# Altium footprint library Miscellaneous.PcbLib: 71 footprints (part 1 of 5)
Each footprint in its own frame and in the unit in brackets; x right, y up, seen from the top. Pads: shape width x height; smd on the part's side, far side on the other; paste and mask are expansions set on the pad; w line width, h text height; cw(c..) or ccw(c..) is an arc to the next point about the centre after c.
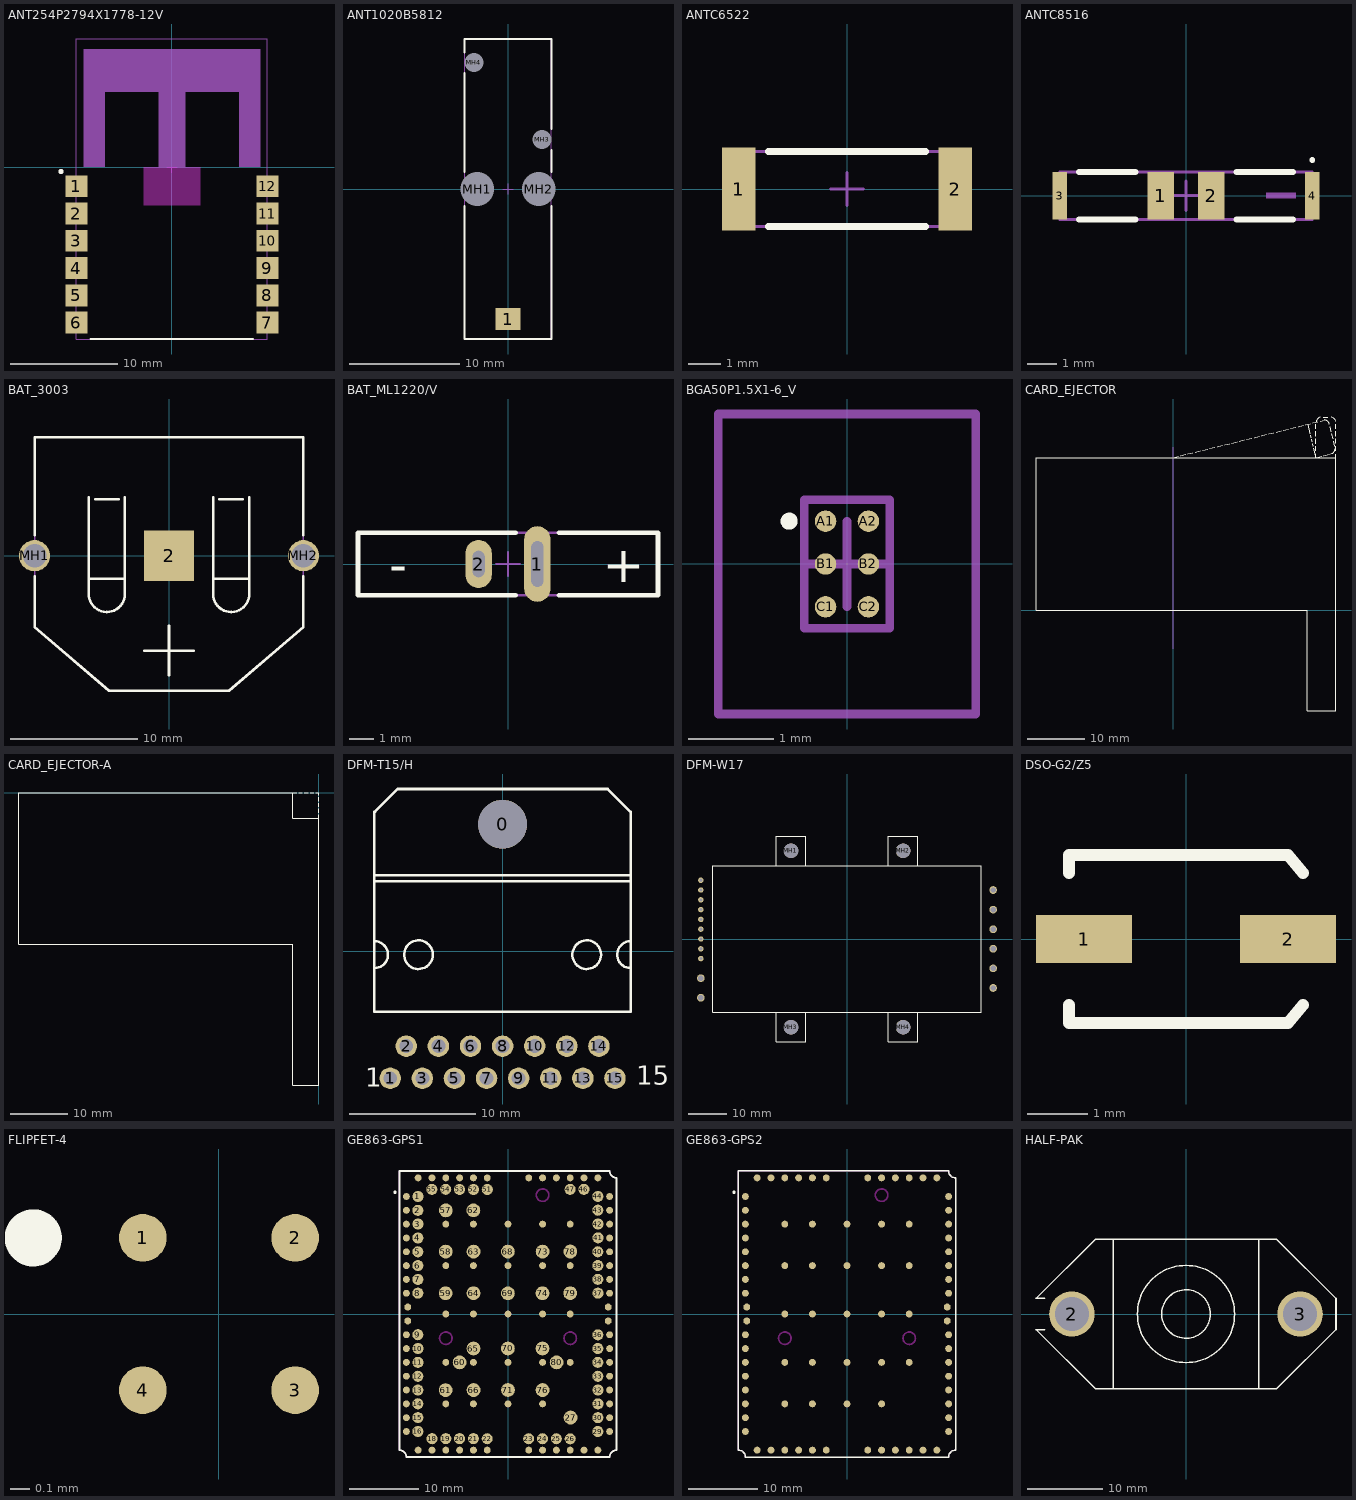
[diagram p0: the footprints below, top view; thin cyan lines are the x and y axes]

## ANT254P2794X1778-12V [mil] "SM Module; 12 Leads; Body 27.9x17.8x1.7mm (LxWxH), Microchip Recommended"
height 66.93
pads (12):
  rect 80x80 smd paste-159.45 mask+2: 1(-350,-70) 2(-350,-170) 3(-350,-270) 4(-350,-370) 5(-350,-470) 6(-350,-570) 7(350,-570) 8(350,-470) 9(350,-370) 10(350,-270) 11(350,-170) 12(350,-70)
Top Layer keep-out:
  rectangle: -105,-140 105,0
Top Overlay:
  circle w9.84: c-406.5,-15.75 r4.92
  lines w7.87: -297.64,-630 297.64,-630
Mechanical 13:
  rectangle: -49.21,0 49.21,275.59
  region: 324.8,275.59 246.06,275.59 246.06,0 324.8,0
  rectangle: -324.8,0 -246.06,275.59
  rectangle: -324.8,275.59 324.8,433.07
  lines w3.94: 350,-630 350,470 ; 350.39,-630 -350,-630 -350,470 350.39,470
Mechanical 15:
  lines w3.94: -19.69,0 19.68,0 ; 0,-19.68 0,19.69
3D body: height 66.93, standoff 0, extent -349.98,-629.98 349.98,469.98

## ANT1020B5812 [mm] "Snap-In Antenna, Body 27.3x7.9mm (LxW)"
height 3.95
pads (5):
  rect 2.25x2 smd: 1(0,-11.85)
  round 2.75 hole 3.05: MH1(-2.8,0) MH2(2.8,0)
  round 1.45 hole 1.75: MH3(3.1,4.5) MH4(-3.1,11.5)
Top Overlay:
  lines w0.2: -3.95,-1.55 -3.95,-13.65 3.95,-13.65 3.95,-1.55 ; -3.95,1.55 -3.95,10.55 ; -3.95,12.45 -3.95,13.65 3.95,13.65 3.95,5.45 ; 3.95,1.55 3.95,3.55
Mechanical 13:
  lines w0.1: -3.95,-13.65 3.95,-13.65 3.95,13.65 -3.95,13.65 -3.95,-13.65
Mechanical 15:
  lines w0.1: -0.5,0 0.5,0 ; 0,-0.5 0,0.5
3D body: height 3.95, standoff 0, extent -3.949,-13.649 3.949,13.649

## ANTC6522 [mil] "Chip Antenna; 2 Leads, Body 6.5x2.2mm (LxW)"
height 40
pads (2):
  rect 40x100 smd: 1(-130,0) 2(130,0)
Top Overlay:
  lines w7.87: -94.25,-45 94.25,-45 ; -94.25,45 94.25,45
Mechanical 13:
  lines w3.94: -130,-45 -130,45 130,45 130,-45 -130,-45
Mechanical 15:
  lines w3.94: -19.69,0 19.68,0 ; 0,-19.68 0,19.69
3D body: height 40, standoff 0, extent -129.98,-44.98 129.98,44.98

## ANTC8516 [mm] "Chip Antenna; 4 Leads, Body 8.5x1.6mm (LxW)"
height 1.4
pads (4):
  rect 0.9x1.6 smd: 1(-0.85,0) 2(0.85,0)
  rect 0.5x1.6 smd: 3(-4.25,0) 4(4.25,0)
Top Overlay:
  circle w0.1: c4.25,1.2 r0.05
  lines w0.2: -3.6,-0.8 -1.7,-0.8 ; -3.6,0.8 -1.7,0.8 ; 1.7,-0.8 3.6,-0.8 ; 1.7,0.8 3.6,0.8
Mechanical 13:
  rectangle: 2.7,-0.1 3.7,0.1
  lines w0.1: -4.25,-0.8 -4.25,0.8 4.25,0.8 4.25,-0.8 -4.25,-0.8
Mechanical 15:
  lines w0.1: -0.5,0 0.5,0 ; 0,-0.5 0,0.5
3D body: height 1.4, standoff 0, extent -4.249,-0.799 4.249,0.799

## BAT_3003 [mm] "Battery Retainer for 20mm Dia. cell, Thru-Hole; Body 21.1 x 19.9 mm"
height 3.7
pads (3):
  rect 3.96x3.96 smd: 2(0,0)
  round 2.45 hole 1.85: MH1(-10.55,0) MH2(10.55,0)
Top Overlay:
  lines w0.2: -10.55,-1.625 -10.55,-5.6 -4.7,-10.6 4.7,-10.6 10.55,-5.6 10.55,-1.625 ; -10.55,1.625 -10.55,9.3 10.55,9.3 10.55,1.625 ; -6.3,-3 -6.3,4.6 ; -6.3,-1.8 -3.46,-1.8 ; -6.299,-2.954 ccw(c-4.88,-3) -3.46,-3 -3.46,4.6 ; -5.8,4.45 -3.96,4.45 ; -1.95,-7.45 1.95,-7.45 ; 0,-9.4 0,-5.5 ; 3.46,-1.8 6.3,-1.8 ; 3.46,4.6 3.46,-3 ccw(c4.88,-3) 6.299,-2.954 ; 3.96,4.45 5.8,4.45 ; 6.3,-3 6.3,4.6
Mechanical 13:
  lines w0.1: -10.55,-5.6 -4.7,-10.6 4.7,-10.6 10.55,-5.6 10.55,9.3 -10.55,9.3 -10.55,-5.6
3D body: height 3.7, standoff 0, extent -10.551,-10.601 10.551,9.301

## BAT_ML1220/V [mm] "Battery, Thru-Hole, Vertical Disk; 2 Leads, Body 12.5 x 2.6 mm (Dia.xW typ)"
height 14.8
pads (2):
  oval 1.1x3.15 hole 0.5 slot 1.9 at 90 deg: 1(1.225,0)
  oval 1.1x2 hole 0.5 slot 1.1 at 90 deg: 2(-1.225,0)
Top Overlay:
  lines w0.2: 0.32,-1.3 -6.25,-1.3 -6.25,1.3 0.32,1.3 ; 2.13,-1.3 6.25,-1.3 6.25,1.3 2.13,1.3
  text "+" at 3.94,-0.76 h1.52
  text "-" at -4.955,-0.76 h1.52
Mechanical 13:
  lines w0.1: -6.25,-1.3 6.25,-1.3 6.25,1.3 -6.25,1.3 -6.25,-1.3
Mechanical 15:
  lines w0.1: -0.5,0 0.5,0 ; 0,-0.5 0,0.5
3D body: height 14.8, standoff 1, extent -6.249,-1.299 6.249,1.299

## BGA50P1.5X1-6_V [mm] "BGA, 6-Leads, Body 1.5x1mm, Pitch 0.5mm, FSC Recommended"
height 0.65
pads (6):
  round 0.25 smd: A1(-0.25,0.5) A2(0.25,0.5) B1(-0.25,0) B2(0.25,0) C1(-0.25,-0.5) C2(0.25,-0.5)
Top Overlay:
  circle w0.1: c-0.675,0.5 r0.05
Mechanical 13:
  lines w0.1: -0.5,-0.75 -0.5,0.75 0.5,0.75 0.5,-0.75 -0.5,-0.75
Mechanical 15:
  lines w0.1: -0.5,0 0.5,0 ; 0,-0.5 0,0.5 ; -1.5,-1.75 -1.5,1.75 1.5,1.75 1.5,-1.75 -1.5,-1.75
3D body: height 0.65, standoff 0.22, extent -0.5,-0.75 0.5,0.75

## CARD_EJECTOR [mm] "Ejector for CompactFlash Card Header, Type I; Right Button"
height 7.2
Top Overlay:
  lines w0.2: 0,26.5 0.875,26.717 ; 1.28,26.81 2.156,27.028 ; 2.56,27.13 3.435,27.347 ; 3.84,27.45 4.715,27.667 ; 5.115,27.763 5.99,27.98 ; 6.386,28.081 7.26,28.298 ; 7.666,28.398 8.541,28.615 ; 8.944,28.705 9.818,28.922 ; 10.224,29.015 11.099,29.234 ; 11.501,29.348 12.376,29.564 ; 12.78,29.663 13.655,29.879 ; 14.061,29.98 14.936,30.197 ; 15.339,30.306 16.203,30.512 ; 16.608,30.612 17.483,30.828 ; 17.881,30.927 18.756,31.144 ; 19.159,31.251 20.024,31.457 ; 20.43,31.557 21.305,31.772 ; 21.708,31.872 22.583,32.089 ; 22.983,32.197 23.848,32.403 ; 23.362,32.289 23.752,30.652 ; 23.822,30.378 23.922,29.944 ; 23.991,29.66 24.091,29.226 ; 24.175,28.896 24.275,28.462 ; 24.252,32.503 25.127,32.719 ; 24.359,28.137 24.749,26.5 ; 24.764,26.5 25.799,26.759 ; 24.775,26.5 24.775,27.1 ; 24.779,27.641 24.779,28.441 ; 24.779,28.937 24.779,29.737 ; 24.779,30.233 24.779,31.033 ; 24.779,31.465 24.779,32.265 ; 24.859,32.75 cw(c25.729,32.635) 25.582,33.5 ; 25.531,32.819 26.268,33.018 ; 26.094,26.829 27.129,27.088 ; 26.093,33.5 26.893,33.5 ; 26.291,33.026 cw(c26.262,32.149) 27.127,32.296 ; 27.212,31.878 27.412,31.02 ; 27.406,27.171 ccw(c27.26,28.035) 28.136,28.006 ; 27.444,33.494 cw(c27.415,32.618) 28.28,32.764 ; 27.503,30.652 27.703,29.794 ; 27.511,30.652 27.711,29.794 ; 27.825,29.35 28.025,28.492 ; 28.28,27.1 28.28,26.5 ; 28.28,27.644 28.28,28.444 ; 28.28,28.94 28.28,29.74 ; 28.28,30.236 28.28,31.036 ; 28.28,31.468 28.28,32.268 ; 28.28,26.5 28.28,0 28.28,-17.5 23.34,-17.5 23.34,0 -23.82,0 -23.82,26.5 28.28,26.5
Mechanical 1:
  lines w0.1: 0,-6.75 0,28.25 0,26.55

## CARD_EJECTOR-A [mm] "Ejector for CompactFlash Card Header, Type II; Right Button"
height 7.12
Top Overlay:
  lines w0.2: -3.9,0 -4.56,0 ; -3.56,0 -2.9,0 ; -2.56,0 -1.9,0 ; -1.56,0 -0.9,0 ; -0.56,0 0,0 0,-0.45 ; 0,-3.79 0,-4.45 ; 0,-3.45 0,-2.79 ; 0,-2.45 0,-1.79 ; 0,-1.45 0,-0.79 ; -4.56,0 -52.2,0 -52.2,-26.4 -4.56,-26.4 -4.56,-50.9 0,-50.9 0,-4.45 ; -4.56,0 -4.56,-4.45 0,-4.45

## DFM-T15/H [mm] "TO, Thru-Hole, Horizontal, Heatsink Mounted; 15 Bent Staggered Leads; Pitch 1.27 mm"
height 4.62
pads (16):
  round 3.86 hole 3.86: 0(0,10.045)
  round 1.7 hole 1.1: 1(-8.89,-10.045) 2(-7.62,-7.505) 3(-6.35,-10.045) 4(-5.08,-7.505) 5(-3.81,-10.045) 6(-2.54,-7.505) 7(-1.27,-10.045) 8(0,-7.505) 9(1.27,-10.045) 10(2.54,-7.505) 11(3.81,-10.045) 12(5.08,-7.505) 13(6.35,-10.045) 14(7.62,-7.505) 15(8.89,-10.045)
Top Overlay:
  circle w0.2: c6.656,-0.271 r1.136
  circle w0.2: c-6.656,-0.271 r1.136
  lines w0.2: -10.135,-1.336 ccw(c-10.135,-0.271) -10.135,0.795 ; -10.135,5.555 10.135,5.555 ; -10.135,6.025 10.135,6.025 ; -10.135,11.05 -10.135,11.045 -10.135,-4.794 10.135,-4.795 10.135,11.045 ; -10.09,11.045 -8.3,12.836 8.3,12.836 10.09,11.045 ; 10.135,-1.336 cw(c10.135,-0.271) 10.135,0.795
  text "1" at -10.863,-10.731 h1.5
  text "15" at 10.554,-10.556 h1.5

## DFM-W17 [mm] "DC/DC Converter; 17 pins; Body 70 x 38 mm"
height 10.16
pads (21):
  round 1.4 hole 0.8: 1(-37.91,15.24) 2(-37.91,12.7) 3(-37.91,10.16) 4(-37.91,7.62) 5(-37.91,5.08) 6(-37.91,2.54) 7(-37.91,0) 8(-37.91,-2.54) 9(-37.91,-5.08)
  round 2 hole 1.4: 10(-37.91,-10.16) 11(-37.91,-15.24) 12(37.91,-12.7) 13(37.91,-7.62) 14(37.91,-2.54) 15(37.91,2.54) 16(37.91,7.62) 17(37.91,12.7)
  round 3.78 hole 3.78 unplated: MH1(-14.53,22.86) MH2(14.54,22.86) MH3(-14.53,-22.86) MH4(14.54,-22.86)
Top Overlay:
  lines w0.2: -18.34,-19.05 -18.34,-26.67 -10.72,-26.67 -10.72,-19.05 ; -18.34,19.05 -18.34,26.67 -10.72,26.67 -10.72,19.05 ; 10.73,-19.05 10.73,-26.67 18.35,-26.67 18.35,-19.05 ; 10.73,19.05 10.73,26.67 18.2,26.67 ; 18.35,19.05 18.35,26.67 ; -34.86,-19.05 34.86,-19.05 34.86,19.05 -34.86,19.05 -34.86,-19.05

## DSO-G2/Z5 [mm] "SOD-123; 2 Leads; Body 2.7 x 1.6 mm, (LxW)"
height 1.35
pads (2):
  rect 1.6x0.8 smd: 1(-1.7,0) 2(1.7,0)
Top Overlay:
  lines w0.2: -1.95,-1.098 -1.95,-1.4 1.7,-1.4 1.95,-1.098 ; -1.95,1.098 -1.95,1.4 1.7,1.4 1.95,1.098

## FLIPFET-4 [mm] "FlipFET; 4 Balls; Body 1.5 x1.5 x 0.8 (LxWxH)"
height 0.762
pads (4):
  round 0.25 smd: 1(-0.4,0.4) 2(0.4,0.4) 3(0.4,-0.4) 4(-0.4,-0.4)
Top Overlay:
  circle w0.15: c-0.975,0.4 r0.075

## GE863-GPS1 [mm] "GE863-GPS module; SM; 84+67 Leads; Body 41.4x31.4mm (LxW max)"
height 3.6
pads (154):
  round 1 smd: 1(-14.7,17) 2(-14.7,15) 3(-14.7,13) 4(-14.7,11) 5(-14.7,9) 6(-14.7,7) 7(-14.7,5) 8(-14.7,3) 9(-14.7,-3) 10(-14.7,-5) 11(-14.7,-7) 12(-14.7,-9) 13(-14.7,-11) 14(-14.7,-13) 15(-14.7,-15) 16(-14.7,-17) 17(-13,-19.7) 18(-11,-19.7) 19(-9,-19.7) 20(-7,-19.7) 21(-5,-19.7) 22(-3,-19.7) 23(3,-19.7) 24(5,-19.7) 25(7,-19.7) 26(9,-19.7) 27(11,-19.7) 28(13,-19.7) 29(14.7,-17) 30(14.7,-15) 31(14.7,-13) 32(14.7,-11) 33(14.7,-9) 34(14.7,-7) 35(14.7,-5) 36(14.7,-3) 37(14.7,3) 38(14.7,5) 39(14.7,7) 40(14.7,9) 41(14.7,11) 42(14.7,13) 43(14.7,15) 44(14.7,17) 45(13,19.7) 46(11,19.7) 47(9,19.7) 48(7,19.7) 49(5,19.7) 50(3,19.7) 51(-3,19.7) 52(-5,19.7) 53(-7,19.7) 54(-9,19.7) 55(-11,19.7) 56(-13,19.7) 57(-9,13) 58(-9,7) 59(-9,0) 60(-9,-7) 61(-9,-13) 62(-5,13) 63(-5,7) 64(-5,0) 65(-5,-7) 66(-5,-13) 67(0,13) 68(0,7) 69(0,0) 70(0,-7) 71(0,-13) 72(5,13) 73(5,7) 74(5,0) 75(5,-7) 76(5,-13) 77(9,13) 78(9,7) 79(9,0) 80(9,-7) 81(-14.5,1) 82(-14.5,-1) 83(14.5,-1) 84(14.5,1)
  round 1.6 smd: 1(-13.028,17.002) 2(-13.038,14.992) 3(-13.028,13.012) 4(-13.038,11.002) 5(-13.038,9.002) 6(-13.038,7.002) 7(-13.038,5.002) 8(-13.038,3.012) 9(-13.038,-2.998) 10(-13.028,-4.998) 11(-13.028,-6.998) 12(-13.038,-9.008) 13(-13.038,-11.008) 14(-13.038,-12.988) 15(-13.038,-14.988) 16(-13.038,-16.998) 18(-10.988,-18.043) 19(-8.998,-18.038) 20(-7.008,-18.038) 21(-5.008,-18.038) 22(-3.008,-18.048) 23(2.992,-18.048) 24(4.992,-18.048) 25(6.992,-18.048) 26(9.002,-18.058) 29(12.992,-17.008) 30(13.002,-14.998) 31(13.012,-12.998) 32(13.012,-10.998) 33(13.002,-9.008) 34(12.992,-6.998) 35(12.992,-4.998) 36(13.002,-3.008) 37(13.012,3.012) 38(12.992,5.012) 39(12.992,7.002) 40(12.992,9.002) 41(13.032,11.022) 42(13.012,13.012) 43(13.002,15.012) 44(13.002,17.012) 46(10.982,18.032) 47(8.992,18.032) 51(-2.998,18.012) 52(-4.998,18.012) 53(-7.008,18.022) 54(-9.008,18.042) 55(-11.018,18.032)
  round 2 smd: 27(9.052,-14.988) 57(-8.998,14.992) 58(-9.008,9.022) 59(-9.018,3.002) 60(-7,-7) 61(-9.018,-11.018) 62(-5.008,15.002) 63(-4.978,9.022) 64(-4.988,3.012) 65(-4.998,-4.998) 66(-4.978,-11.008) 68(-0.018,9.022) 69(-0.018,2.992) 70(-0.018,-4.988) 71(-0.008,-10.998) 73(5.012,9.022) 74(4.992,3.002) 75(4.992,-4.988) 76(5.002,-11.008) 78(9.012,9.032) 79(9.002,3.012) 80(7.034,-7)
Top Layer:
  lines w0.254: -7,-7 -6.998,-6.998 ; -5.008,15.002 -5,14.994 ; 13.002,15.012 13.014,15
  lines w0.5: -13.05,-15 -13.038,-14.988 ; -13.05,-13 -13.038,-12.988 ; -13.05,3 -13.038,3.012 ; -13.046,-11 -13.038,-11.008 ; -13.046,-9 -13.038,-9.008 ; -13.046,15 -13.038,14.992 ; -13.04,-17 -13.038,-16.998 ; -13.04,-3 -13.038,-2.998 ; -13.04,5 -13.038,5.002 ; -13.04,7 -13.038,7.002 ; -13.04,9 -13.038,9.002 ; -13.04,11 -13.038,11.002 ; -13.04,13 -13.028,13.012 ; -13.03,-7 -13.028,-6.998 ; -13.03,-5 -13.028,-4.998 ; -13.03,17 -13.028,17.002 ; -11.018,19.682 -11,19.7 ; -11,-18.055 -10.988,-18.043 ; -9.018,-11.018 -9,-11.036 ; -9.018,3.002 -9,2.984 ; -9.008,9.022 -9,9.014 ; -9.008,18.042 -9,18.05 ; -9,-18.04 -8.998,-18.038 ; -7.008,-18.038 -7,-18.046 ; -7.008,19.692 -7,19.7 ; -5.008,-18.038 -5,-18.046 ; -5,-11.03 -4.978,-11.008 ; -5,-5 -4.998,-4.998 ; -5,3 -4.988,3.012 ; -5,9 -4.978,9.022 ; -5,18.014 -4.998,18.012 ; -3.008,-18.048 -3,-18.056 ; -3,19.7 -2.998,19.698 ; -0.018,-4.988 0,-5.006 ; -0.018,2.992 0,2.974 ; -0.018,9.022 0,9.004 ; -0.008,-10.998 0,-11.006 ; 2.992,-19.692 3,-19.7 ; 4.992,-19.692 5,-19.7 ; 4.992,-4.988 5,-4.996 ; 4.992,3.002 5,2.994 ; 5,-11.01 5.002,-11.008 ; 5,9.01 5.012,9.022 ; 6.972,-6.938 7.034,-7 ; 6.992,-19.692 7,-19.7 ; 8.992,19.692 9,19.7 ; 9,-19.7 9.002,-19.698 ; 9,3.01 9.002,3.012 ; 9,9.02 9.012,9.032 ; 10.982,19.682 11,19.7 ; 14.678,11.022 14.7,11 ; 14.688,3.012 14.7,3 ; 14.688,5.012 14.7,5 ; 14.688,13.012 14.7,13 ; 14.688,17.012 14.7,17 ; 14.692,-17.008 14.7,-17 ; 14.692,-9.008 14.7,-9 ; 14.692,-3.008 14.7,-3 ; 14.698,-14.998 14.7,-15 ; 14.698,-12.998 14.7,-13 ; 14.698,-10.998 14.7,-11 ; 14.698,-6.998 14.7,-7 ; 14.698,-4.998 14.7,-5 ; 14.698,7.002 14.7,7 ; 14.698,9.002 14.7,9
Top Layer keep-out:
  circle w0.254: c5,17.2 r0.9
  circle w0.254: c9,-3.5 r0.9
  circle w0.254: c-9,-3.5 r0.9
Top Overlay:
  circle w0.25: c-16.35,17.6 r0.125
  lines w0.254: -15.7,-19.7 cw(c-15.7,-20.7) -14.7,-20.7 14.7,-20.7 cw(c15.7,-20.7) 15.7,-19.7 15.7,19.7 cw(c15.7,20.7) 14.7,20.7 -15.7,20.7 -15.7,-19.7
Mechanical 13:
  lines w0.1: -15.7,-19.7 cw(c-15.7,-20.7) -14.7,-20.7 14.7,-20.7 cw(c15.7,-20.7) 15.7,-19.7 15.7,19.7 cw(c15.7,20.7) 14.7,20.7 -15.7,20.7 -15.7,-19.7
Mechanical 15:
  lines w0.1: -0.5,0 0.5,0 ; 0,-0.5 0,0.5
3D body: height 3.58, standoff 0, extent -15.701,-20.701 15.701,20.701

## GE863-GPS2 [mm] "GE863-GPS module; SM; 84 Leads; Body 41.4x31.4mm (LxW max)"
height 3.6
pads (84):
  round 1 smd: 1(-14.7,17) 2(-14.7,15) 3(-14.7,13) 4(-14.7,11) 5(-14.7,9) 6(-14.7,7) 7(-14.7,5) 8(-14.7,3) 9(-14.7,-3) 10(-14.7,-5) 11(-14.7,-7) 12(-14.7,-9) 13(-14.7,-11) 14(-14.7,-13) 15(-14.7,-15) 16(-14.7,-17) 17(-13,-19.7) 18(-11,-19.7) 19(-9,-19.7) 20(-7,-19.7) 21(-5,-19.7) 22(-3,-19.7) 23(3,-19.7) 24(5,-19.7) 25(7,-19.7) 26(9,-19.7) 27(11,-19.7) 28(13,-19.7) 29(14.7,-17) 30(14.7,-15) 31(14.7,-13) 32(14.7,-11) 33(14.7,-9) 34(14.7,-7) 35(14.7,-5) 36(14.7,-3) 37(14.7,3) 38(14.7,5) 39(14.7,7) 40(14.7,9) 41(14.7,11) 42(14.7,13) 43(14.7,15) 44(14.7,17) 45(13,19.7) 46(11,19.7) 47(9,19.7) 48(7,19.7) 49(5,19.7) 50(3,19.7) 51(-3,19.7) 52(-5,19.7) 53(-7,19.7) 54(-9,19.7) 55(-11,19.7) 56(-13,19.7) 57(-9,13) 58(-9,7) 59(-9,0) 60(-9,-7) 61(-9,-13) 62(-5,13) 63(-5,7) 64(-5,0) 65(-5,-7) 66(-5,-13) 67(0,13) 68(0,7) 69(0,0) 70(0,-7) 71(0,-13) 72(5,13) 73(5,7) 74(5,0) 75(5,-7) 76(5,-13) 77(9,13) 78(9,7) 79(9,0) 80(9,-7) 81(-14.5,1) 82(-14.5,-1) 83(14.5,-1) 84(14.5,1)
Top Layer keep-out:
  circle w0.254: c-9,-3.5 r0.9
  circle w0.254: c9,-3.5 r0.9
  circle w0.254: c5,17.2 r0.9
Top Overlay:
  circle w0.25: c-16.35,17.6 r0.125
  lines w0.2: -15.7,-19.7 cw(c-15.7,-20.7) -14.7,-20.7 14.7,-20.7 cw(c15.7,-20.7) 15.7,-19.7 15.7,19.7 cw(c15.7,20.7) 14.7,20.7 -15.7,20.7 -15.7,-19.7
Mechanical 13:
  lines w0.1: -15.7,-19.7 cw(c-15.7,-20.7) -14.7,-20.7 14.7,-20.7 cw(c15.7,-20.7) 15.7,-19.7 15.7,19.7 cw(c15.7,20.7) 14.7,20.7 -15.7,20.7 -15.7,-19.7
3D body: height 3.58, standoff 0, extent -15.701,-20.701 15.701,20.701

## HALF-PAK [mm] "Half-Pak Module; 1 Lug Terminal, 1 Base Terminal; Body 39.62 x 19.69 x 15.11 mm (LxWxH max)"
height 15.11
pads (2):
  round 6 hole 4.5: 2(-15.075,0) 3(15.075,0)
Top Overlay:
  circle w0.2: c0,0 r3.207
  circle w0.2: c0,0 r6.415
  lines w0.2: -18.67,-2.055 -19.81,-2.055 -11.988,-9.845 11.988,-9.845 19.81,-2.055 19.81,2.055 11.988,9.845 -11.988,9.845 -19.81,2.055 -18.67,2.055 ; -9.59,-9.845 -9.59,9.845 ; 9.59,-9.845 9.59,9.845